# Altium footprint library QUTMS_ScreenLibrary.PcbLib: 1 footprints
Each footprint in its own frame and in the unit in brackets; x right, y up, seen from the top. Pads: shape width x height; smd on the part's side, far side on the other; paste and mask are expansions set on the pad; w line width, h text height; cw(c..) or ccw(c..) is an arc to the next point about the centre after c.
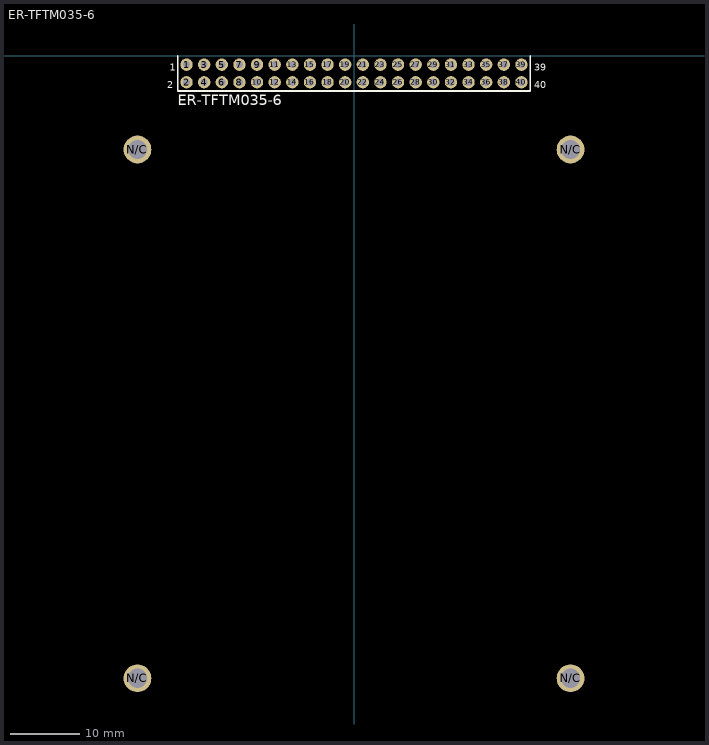
[diagram p0: the footprint, top view; thin cyan lines are the x and y axes]

## ER-TFTM035-6 [mil]
pads (44):
  round 70 hole 40: 1(-950,-50) 2(-950,-150) 3(-850,-50) 4(-850,-150) 5(-750,-50) 6(-750,-150) 7(-650,-50) 8(-650,-150) 9(-550,-50) 10(-550,-150) 11(-450,-50) 12(-450,-150) 13(-350,-50) 14(-350,-150) 15(-250,-50) 16(-250,-150) 17(-150,-50) 18(-150,-150) 19(-50,-50) 20(-50,-150) 21(50,-50) 22(50,-150) 23(150,-50) 24(150,-150) 25(250,-50) 26(250,-150) 27(350,-50) 28(350,-150) 29(450,-50) 30(450,-150) 31(550,-50) 32(550,-150) 33(650,-50) 34(650,-150) 35(750,-50) 36(750,-150) 37(850,-50) 38(850,-150) 39(950,-50) 40(950,-150)
  round 157.48 hole 110.24: N/C(-1228.35,-3531.5) N/C(-1228.35,-531.5) N/C(1228.35,-3531.5) N/C(1228.35,-531.5)
Top Overlay:
  lines w10: -1000,0 -1000,-200 1000,-200 1000,0
  text "40" at 1021.34,-185 h40
  text "39" at 1021.34,-85 h40
  text "2" at -1058.66,-185 h40
  text "1" at -1045.33,-85 h40
  text "ER-TFTM035-6" at -1000,-280 h60
Bottom Overlay:
  lines w10: -1000,-200 1000,-200 1000,0 -1000,0 -1000,-200
  text "ER-TFTM035-6" at 1000,-280 h60
  text "40" at 1096.34,-185 h40
  text "39" at 1096.34,-85 h40
  text "2" at -1021.34,-185 h40
  text "1" at -1021.34,-85 h40
3D body: height 598.43, standoff 456.69, extent -1115,-3675 1115,-325
3D body: height 456.69, standoff 393.7, extent -1305,-3805.1 1305.23,-5
3D body: height 100.36, standoff -100.36, extent -1305,0 -1305,0